# EAGLE library part MA07-1 (library we-con)
Pin Header
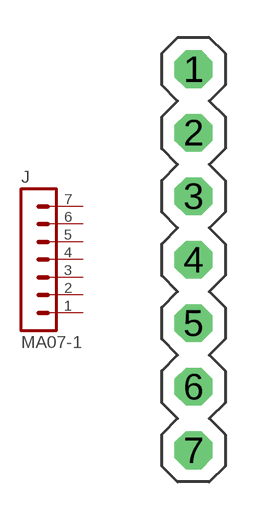
[diagram p6: symbol with the pads of MA07-1; footprint MA07-1]

Designator prefix J

## MA07-1  [MA07-1]
1  1  pas
2  2  pas
3  3  pas
4  4  pas
5  5  pas
6  6  pas
7  7  pas

## Footprint MA07-1 (pad centres in mm)
drill 1 octagon: 1 0,7.62; 2 0,5.08; 3 0,2.54; 4 0,0; 5 0,-2.54; 6 0,-5.08; 7 0,-7.62